# EAGLE library part NX5P3090UKZ (library NX5P3090UKZ)
USB Power SW Single 2.5V to 5.5V 0.4A to 3.3A 12-Pin WLCSP
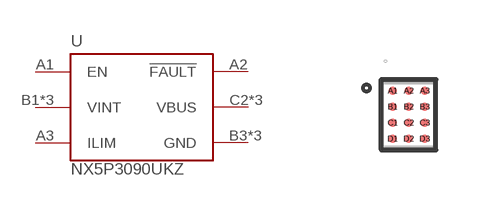
[diagram p0: symbol with the pads of BGA12CP40_3X4_135X165X56B26N; footprint BGA12CP40_3X4_135X165X56B26N]

Designator prefix U

## NX5P3090UKZ (Description: USB Power SW Single 2.5V to 5.5V 0.4A to 3.3A 12-Pin WLCSP; Digi-Key_Part_Number: 568-13049-1-ND; Digi-Key_Purchase_URL: https://www.digikey.com/product-detail/en/nxp-usa-inc/NX5P3090UKZ/568-13049-1-ND/6173637?utm_source=snapeda&utm_medium=aggregator&utm_campaign=symbol; MF: NXP USA; MP: NX5P3090UKZ; Package: UFBGA-12 NXP Semiconductors)  [BGA12CP40_3X4_135X165X56B26N]
A1  EN  in
A2  !FAULT  out
A3  ILIM  pas
B1  VINT  in
B2  VINT  in
B3  GND  pwr
C1  VINT  in
C2  VBUS  out
C3  GND  pwr
D1  VBUS  out
D2  VBUS  out
D3  GND  pwr

## Footprint BGA12CP40_3X4_135X165X56B26N (pad centres in mm)
smd 0.21 x 0.21: A1 -0.4,0.6; A2 0,0.6; A3 0.4,0.6; B1 -0.4,0.2; B2 0,0.2; B3 0.4,0.2; C1 -0.4,-0.2; C2 0,-0.2; C3 0.4,-0.2; D1 -0.4,-0.6; D2 0,-0.6; D3 0.4,-0.6